# EAGLE library part RTC_8P (library !GPLIB_ACTIVE)
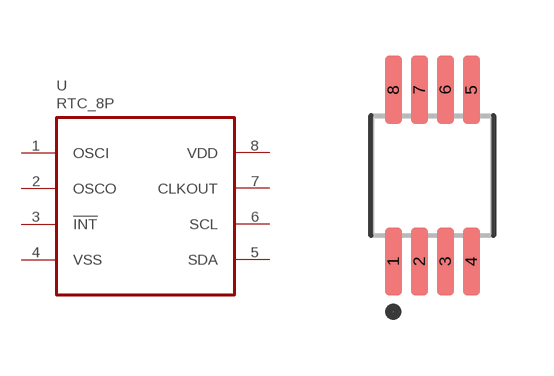
[diagram p124: symbol with the pads of SOP65P490X110-8N; footprint SOP65P490X110-8N]

Designator prefix U

## RTC_8P_HYM8563S  [SOP65P490X110-8N]
1  OSCI  in
2  OSCO  out
3  !INT  in
4  VSS  pwr
5  SDA
6  SCL
7  CLKOUT  out
8  VDD  pwr

## Footprint SOP65P490X110-8N (pad centres in mm)
MSOP 8P MSOP-8_L3.0-W3.0-P0.65-LS5.0-BL
smd 0.425 x 1.7: 1 -0.975,-2.146; 2 -0.325,-2.146; 3 0.325,-2.146; 4 0.975,-2.146; 5 0.975,2.146; 6 0.325,2.146; 7 -0.325,2.146; 8 -0.975,2.146